# EAGLE library part RFID-REMOTE (library FansElectronics-RFID)
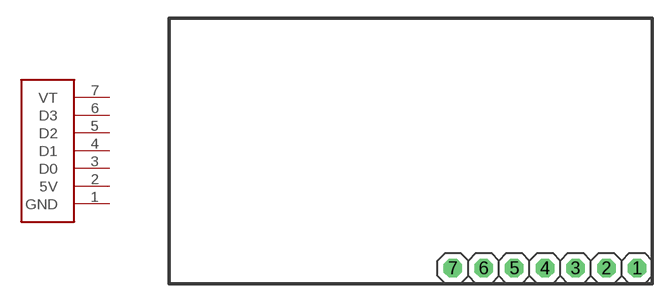
[diagram p0: symbol with the pads of RFID-H; footprint RFID-H]

Designator prefix RFID

## RFID-REMOTE  [RFID-H]
1  GND
2  5V
3  D0
4  D1
5  D2
6  D3
7  VT

## Footprint RFID-H (pad centres in mm)
drill 1.016 octagon: 1 18.73,9.28; 2 16.19,9.28; 3 13.65,9.28; 4 11.11,9.28; 5 8.57,9.28; 6 6.03,9.28; 7 3.49,9.28